# EAGLE library part ADS774JE (library burr-brown)
Microprocessor-Compatible Sampling CMOS ADC
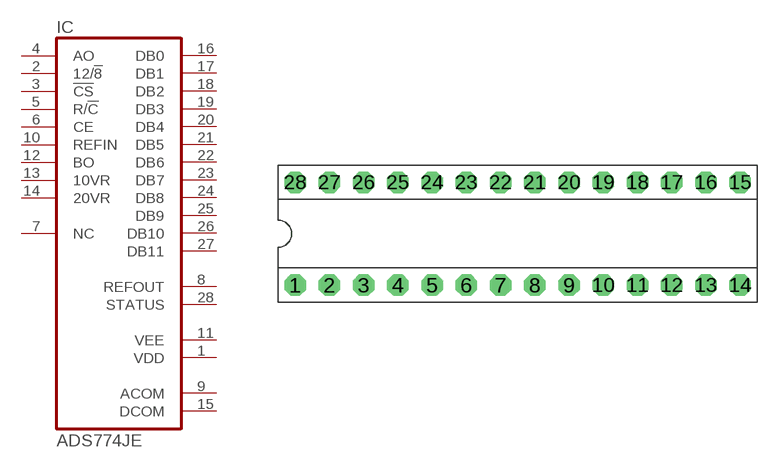
[diagram p218: symbol with the pads of DIP-28/3; footprint DIP-28/3]

Designator prefix IC

## ADS774JE  [DIP-28/3]
1  VDD  pwr
2  12/!8  in
3  !CS  in
4  AO  in
5  R/!C  in
6  CE  in
7  NC  nc
8  REFOUT  out
9  ACOM  pwr
10  REFIN  in
11  VEE  pwr
12  BO  in
13  10VR  in
14  20VR  in
15  DCOM  pwr
16  DB0  out
17  DB1  out
18  DB2  out
19  DB3  out
20  DB4  out
21  DB5  out
22  DB6  out
23  DB7  out
24  DB8  out
25  DB9  out
26  DB10  out
27  DB11  out
28  STATUS  out

## Footprint DIP-28/3 (pad centres in mm)
drill 0.813 pad 1.6 octagon: 1 -16.51,-3.81; 2 -13.97,-3.81; 3 -11.43,-3.81; 4 -8.89,-3.81; 5 -6.35,-3.81; 6 -3.81,-3.81; 7 -1.27,-3.81; 8 1.27,-3.81; 9 3.81,-3.81; 10 6.35,-3.81; 11 8.89,-3.81; 12 11.43,-3.81; 13 13.97,-3.81; 14 16.51,-3.81; 15 16.51,3.81; 16 13.97,3.81; 17 11.43,3.81; 18 8.89,3.81; 19 6.35,3.81; 20 3.81,3.81; 21 1.27,3.81; 22 -1.27,3.81; 23 -3.81,3.81; 24 -6.35,3.81; 25 -8.89,3.81; 26 -11.43,3.81; 27 -13.97,3.81; 28 -16.51,3.81